# Altium integrated library ECS-80-12-33-JGN-TR.IntLib: 1 symbol
Pins are listed as number, name and electrical type; pins without a type are passive.

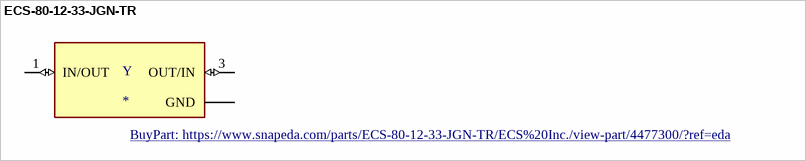
[diagram p0: symbol ECS-80-12-33-JGN-TR]

## ECS-80-12-33-JGN-TR
designator Y
8MHz Â±20ppm Crystal 12pF 400 Ohms 4-SMD, No Lead; MP: ECS-80-12-33-JGN-TR; MF: ECS Inc.; Package: SMD-4 ECS International; Value: *; Availability: Warning; Price: None; SnapEDA_Link: https://www.snapeda.com/parts/ECS-80-12-33-JGN-TR/ECS%20Inc./view-part/4477300/?ref=snap; Mouser-Purchase-URL: https://snapeda.com/shop?store=Mouser&id=4477300; BuyPart: https://www.snapeda.com/parts/ECS-80-12-33-JGN-TR/ECS%20Inc./view-part/4477300/?ref=eda
footprint XTAL_ECS-240-8-33-AGN-TR
pins: 1 IN/OUT (io), 2 GND (power), 3 OUT/IN (io), 4 GND (power)